# EAGLE library part TF-15X15 (library TF-15X15)
Micro-SD Card Socket Source: Datasheet <https://datasheet.lcsc.com/szlcsc/SOFNG-TF-15-15_C111196.pdf>
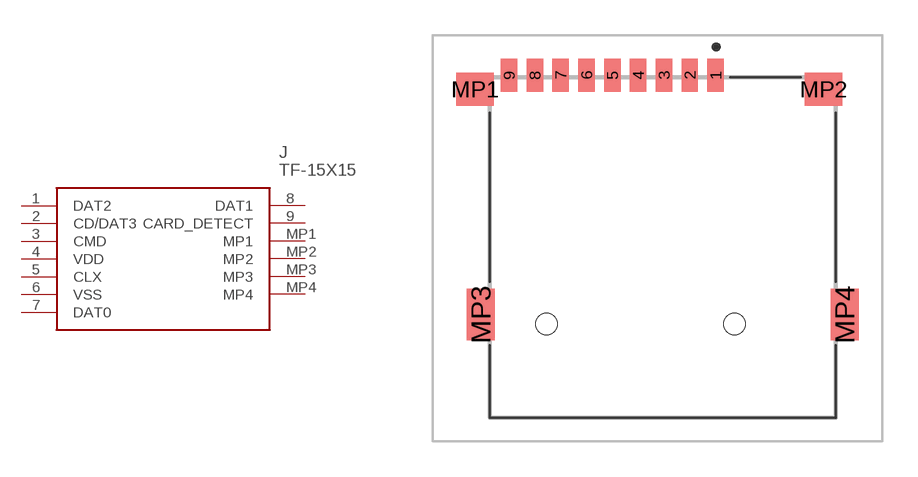
[diagram p0: symbol with the pads of TF15X15; footprint TF15X15]

Designator prefix J

## TF-15X15 (Description: Micro-SD Card Socket; Height: 1.85mm; Manufacturer_Name: SOFNG; Manufacturer_Part_Number: TF-15X15)  [TF15X15]
1  DAT2
2  CD/DAT3
3  CMD
4  VDD
5  CLX
6  VSS
7  DAT0
8  DAT1
9  CARD_DETECT
MP1  MP1
MP2  MP2
MP3  MP3
MP4  MP4

## Footprint TF15X15 (pad centres in mm)
TF-15X15-4
smd 0.7 x 1.4: 1 2.475,6.95; 2 1.375,6.95; 3 0.275,6.95; 4 -0.825,6.95; 5 -1.925,6.95; 6 -3.025,6.95; 7 -4.125,6.95; 8 -5.225,6.95; 9 -6.325,6.95
smd 1.6 x 1.4: MP1 -7.775,6.35; MP2 7.075,6.35
smd 1.2 x 2.2: MP3 -7.525,-3.25; MP4 7.975,-3.25
hole 0.9 at -4.725,-3.65
hole 0.9 at 3.275,-3.65